# Altium footprint library Connector.PcbLib: 240 footprints (part 2 of 15)
Each footprint in its own frame and in the unit in brackets; x right, y up, seen from the top. Pads: shape width x height; smd on the part's side, far side on the other; paste and mask are expansions set on the pad; w line width, h text height; cw(c..) or ccw(c..) is an arc to the next point about the centre after c.
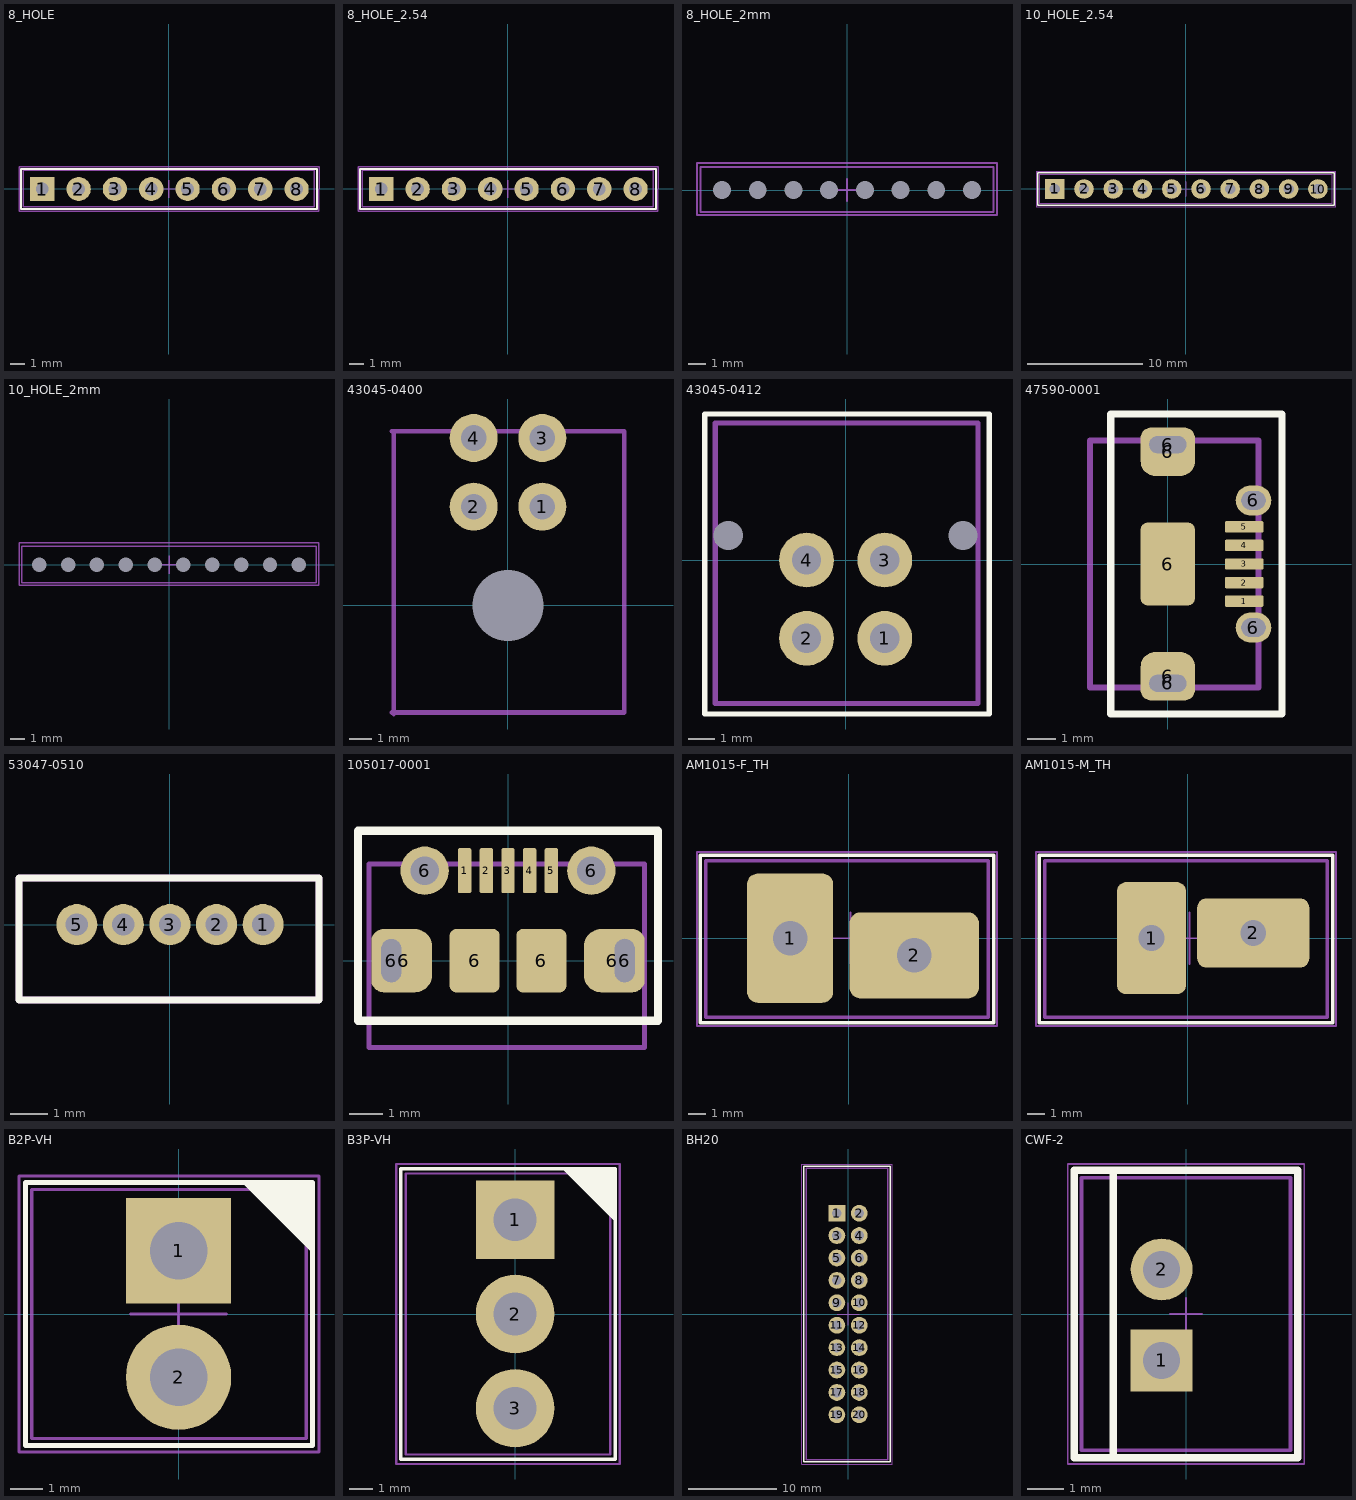
[diagram p1: the footprints below, top view; thin cyan lines are the x and y axes]

## 8_HOLE [mm]
pads (8):
  rect 1.7x1.7 hole 0.9: 1(-8.845,0)
  round 1.7 hole 0.9: 2(-6.305,0) 3(-3.765,0) 5(1.315,0) 6(3.855,0) 7(6.395,0) 8(8.935,0)
  round 1.7 hole 0.9 mask+0.102: 4(-1.225,0)
Top Overlay:
  lines w0.15: -10.325,-1.4 10.355,-1.4 10.355,1.4 -10.325,1.4 -10.325,-1.4
Mechanical 9:
  text ".Designator" at -5.2,5.5 h3.5
Mechanical 10:
  text ".Comment" at -3.1,-5 h2
Mechanical 11:
  lines w0.1: -10.18,-1.23 -10.18,1.3 10.175,1.3 10.175,-1.23 -10.18,-1.23
Mechanical 15:
  lines w0.1: -0.6,0 0.6,0 ; 0,-0.625 0,0.625 ; -10.475,-1.55 -10.475,1.525 -10.475,1.55 10.505,1.55 10.505,-1.55 -10.45,-1.55 -10.475,-1.55

## 8_HOLE_2.54 [mm]
pads (8):
  rect 1.7x1.7 hole 0.9: 1(-8.845,0)
  round 1.7 hole 0.9: 2(-6.305,0) 3(-3.765,0) 5(1.315,0) 6(3.855,0) 7(6.395,0) 8(8.935,0)
  round 1.7 hole 0.9 mask+0.102: 4(-1.225,0)
Top Overlay:
  lines w0.15: -10.325,-1.4 -10.325,1.4 10.355,1.4 10.355,-1.4 -10.325,-1.4
Mechanical 9:
  text ".Designator" at -5.2,5.5 h3.5
Mechanical 10:
  text ".Comment" at -3.1,-5 h2
Mechanical 11:
  lines w0.1: -10.18,-1.23 10.175,-1.23 10.175,1.3 -10.18,1.3 -10.18,-1.23
Mechanical 15:
  lines w0.1: -0.6,0 0.6,0 ; 0,-0.625 0,0.625 ; -10.475,-1.55 -10.45,-1.55 10.505,-1.55 10.505,1.55 -10.475,1.55 -10.475,1.525 -10.475,-1.55

## 8_HOLE_2mm [mm]
pads (8):
  rect 0x0 hole 1: 1(-7,0)
  round 0 hole 1 mask+0.102: 2(-5,0) 3(-3,0) 4(-1,0)
  round 0 hole 1: 5(1,0) 6(3,0) 7(5,0) 8(7,0)
Mechanical 9:
  text ".Designator" at -5.9,2.6 h3.5
Mechanical 10:
  text ".Comment" at -3.5,-2.9 h2
Mechanical 11:
  lines w0.1: -8.2,-1.23 -8.2,1.3 8.2,1.3 8.2,-1.23 -8.2,-1.23
Mechanical 15:
  lines w0.1: -0.6,0 0.6,0 ; 0,-0.625 0,0.625 ; -8.4,-1.4 8.4,-1.4 8.4,1.525 -8.4,1.525 -8.4,-1.4

## 10_HOLE_2.54 [mm]
pads (10):
  rect 1.7x1.7 hole 0.9: 1(-11.395,0)
  round 1.7 hole 0.9: 2(-8.855,0) 3(-6.315,0) 5(-1.235,0) 6(1.305,0) 7(3.845,0) 8(6.385,0) 9(8.925,0) 10(11.465,0)
  round 1.7 hole 0.9 mask+0.102: 4(-3.775,0)
Top Overlay:
  lines w0.15: -12.875,-1.4 12.885,-1.4 12.885,1.4 -12.875,1.4 -12.875,-1.4
Mechanical 9:
  text ".Designator" at -5.2,5.5 h3.5
Mechanical 10:
  text ".Comment" at -3.1,-5 h2
Mechanical 11:
  lines w0.1: -12.73,-1.23 -12.73,1.3 12.705,1.3 12.705,-1.23 -12.73,-1.23
Mechanical 15:
  lines w0.1: -0.6,0 0.6,0 ; 0,-0.625 0,0.625 ; 12.95,1.55 -13.025,1.55 -13.025,1.525 -13.025,-1.55 -13,-1.55 13.035,-1.55 13.035,1.55

## 10_HOLE_2mm [mm]
pads (10):
  rect 0x0 hole 1: 1(-9,0) 2(-7,0)
  round 0 hole 1 mask+0.102: 3(-5,0) 4(-3,0) 5(-1,0)
  round 0 hole 1: 6(1,0) 7(3,0) 8(5,0) 9(7,0) 10(9,0)
Mechanical 9:
  text ".Designator" at -5.9,2.6 h3.5
Mechanical 10:
  text ".Comment" at -3.5,-2.9 h2
Mechanical 11:
  lines w0.1: -10.2,-1.23 -10.2,1.3 10.2,1.3 10.2,-1.23 -10.2,-1.23
Mechanical 15:
  lines w0.1: -0.6,0 0.6,0 ; 0,-0.625 0,0.625 ; -10.4,-1.4 -10.4,1.525 10.4,1.525 10.4,-1.4 -10.4,-1.4

## 43045-0400 [mm]
pads (5):
  round 2.1 hole 1.12: 1(1.5,4.32) 2(-1.5,4.32) 3(1.5,7.32) 4(-1.5,7.32)
  round 0 hole 3.1 unplated: ""(0,0)
Mechanical 15:
  lines w0.2: -5.075,-4.686 5.075,-4.686 5.075,7.62 -5.075,7.62 ; -5,-4.75 -5,7.556
3D body "razem.stp": height 10.7, standoff -3.18, extent -5.075,-12.27 5.075,7.62

## 43045-0412 [mm]
pads (6):
  round 2.1 hole 1.12: 1(1.5,-3) 2(-1.5,-3) 3(1.5,0) 4(-1.5,0)
  round 0 hole 1.12 unplated: ""(-4.5,0.94) ""(4.5,0.94)
Top Overlay:
  lines w0.2: -5.4,-5.9 -5.4,5.6 5.5,5.6 5.5,-5.9 -5.4,-5.9
Mechanical 15:
  lines w0.2: -5,-5.5 -5,5.25 5.075,5.25 5.075,-5.5 -5,-5.5
3D body "430450412Ass.STEP": height 17.6, standoff -3.14, extent -5.075,-5.59 5.075,5.24

## 47590-0001 [mm]
pads (12):
  rrect25% 1.35x0.4 smd: 1(2.675,-1.3) 2(2.675,-0.65) 3(2.675,0) 4(2.675,0.65) 5(2.675,1.3)
  rrect60% 1.9x1.7 smd: 6(0,-3.925) 6(0,3.925)
  rrect25% 1.9x2.9 smd: 6(0,0)
  rrect60% 1.9x1.2 hole 0.6 slot 1.3 at 0 deg: 6(0,4.175) 6(0,-4.175)
  oval 1.25x1.05 hole 0.65 slot 0.85 at 0 deg: 6(3,-2.225) 6(3,2.225)
Top Overlay:
  lines w0.254: -2,-5.25 -2,5.25 4,5.25 4,-5.25 -2,-5.25
Mechanical 7:
  lines w0.2: -2.725,-4.325 -2.725,4.325 3.175,4.325 3.175,-4.325 -2.725,-4.325
3D body "475900001.stp": height 2.73, standoff -0.63, extent -2.725,-4.325 3.175,4.325

## 53047-0510 [mm]
pads (5):
  round 1.1 hole 0.6 mask+0: 1(2.5,0) 2(1.25,0) 3(0,0) 4(-1.25,0) 5(-2.5,0)
Top Overlay:
  lines w0.2: -4.05,-2.025 -4.05,1.25 4,1.25 4,-2.025 -4.05,-2.025
Mechanical 15:
  lines w0.2: -4.05,-2.025 -4.05,1.25 4,1.25 4,-2.025 -4.05,-2.025
3D body "molex_5pin.stp": height 5.23, standoff -2.27, extent -4.05,-2.025 4,1.225

## 105017-0001 [mm]
pads (13):
  rrect25% 0.4x1.35 smd: 1(-1.3,2.7) 2(-0.65,2.7) 3(0,2.7) 4(0.65,2.7) 5(1.3,2.7)
  rrect60% 1.2x1.9 hole 0.6 slot 1.3 at 90 deg: 6(-3.5,0) 6(3.5,0)
  rrect60% 1.7x1.9 smd: 6(-3.125,0) 6(3.125,0)
  round 1.45 hole 0.85: 6(-2.5,2.7) 6(2.5,2.7)
  rrect25% 1.5x1.9 smd: 6(-1,0) 6(1,0)
Top Overlay:
  lines w0.254: -4.5,-1.8 -4.5,3.9 4.5,3.9 4.5,-1.8 -4.5,-1.8
Mechanical 7:
  lines w0.15: -4.175,-2.6 4.1,-2.6 4.1,2.9 -4.175,2.9 -4.175,-2.6
3D body "1050170001.stp": height 2.73, standoff -0.58, extent -4.1,-2.575 4.1,2.825

## AM1015-F_TH [mm]
pads (2):
  rrect25% 5x7.5 hole 2 square: 1(-3.4,0)
  rrect25% 7.5x5 hole 2 square: 2(3.8,-1)
Top Overlay:
  lines w0.2: -8.6,-4.9 8.4,-4.9 8.4,4.8 -8.6,4.8 -8.6,-4.9
Mechanical 7:
  lines w0.2: -8.3,-4.6 8.1,-4.6 8.1,4.5 -8.3,4.5 -8.3,-4.6
Mechanical 9:
  text ".Designator" at -5.3,6.6 h3.5
Mechanical 10:
  text ".Comment" at -2.8,4.8 h2
Mechanical 15:
  lines w0.1: -1.5,0 1.5,0 ; 0.1,-1.5 0.1,1.5 ; -8.8,-5.1 -8.8,5 8.6,5 8.6,-5.1 -8.8,-5.1
3D body "Amass T Plug Female Connector.STEP": height 11.5, standoff -3.7, extent -8.25,-4.625 8.15,4.575

## AM1015-M_TH [mm]
pads (2):
  rrect25% 4x6.5 hole 1.5 square: 1(-2.1,0)
  rrect25% 6.5x4 hole 1.5 square: 2(3.8,0.3)
Top Overlay:
  lines w0.2: -8.6,-4.9 8.4,-4.9 8.4,4.8 -8.6,4.8 -8.6,-4.9
Mechanical 7:
  lines w0.2: -8.3,-4.6 8.1,-4.6 8.1,4.5 -8.3,4.5 -8.3,-4.6
Mechanical 9:
  text ".Designator" at -5.3,6.6 h3.5
Mechanical 10:
  text ".Comment" at -2.8,4.8 h2
Mechanical 15:
  lines w0.1: -1.5,0 1.5,0 ; 0.1,-1.5 0.1,1.5 ; -8.8,-5.1 -8.8,5 8.6,5 8.6,-5.1 -8.8,-5.1
3D body "Amass T Plug Male Connector.STEP": height 15.45, standoff -3.7, extent -8.25,-4.625 8.15,4.575

## B2P-VH [mm] "Вилка прямая на плату (к VHR) 3.96мм"
height 0.05
pads (2):
  rect 3.3x3.3 hole 1.8: 1(0,1.98)
  round 3.3 hole 1.8: 2(0,-1.98)
Top Overlay:
  region: 2.006,4.094 4.2,1.9 4.2,4.12
  lines w0.15: -4.8,-4.12 4.2,-4.12 4.2,4.12 -4.8,4.12 -4.8,-4.12
Mechanical 7:
  lines w0.1: -4.6,-3.9 4,-3.9 4,3.9 -4.6,3.9 -4.6,-3.9
Mechanical 9:
  text ".Designator" at -5.9,5.3 h3.5
Mechanical 10:
  text ".Comment" at -3.3,-5.9 h2
Mechanical 15:
  lines w0.1: -1.5,0 1.5,0 ; 0,-1.5 0,1.5 ; -5,-4.32 4.4,-4.32 4.4,4.32 -5,4.32 -5,-4.32
3D body "User Library-B2P-VH.STEP": height 10.9, standoff -3.7, extent -4.6,-3.93 3.9,3.93

## B3P-VH [mm] "Вилка прямая на плату (к VHR) 3.96мм"
height 0.05
pads (3):
  rect 3.3x3.3 hole 1.8: 1(0,3.96)
  round 3.3 hole 1.8: 2(0,0) 3(0,-3.96)
Top Overlay:
  region: 2.006,6.074 4.2,3.88 4.2,6.1
  lines w0.15: -4.8,-6.1 -4.8,6.1 4.2,6.1 4.2,-6.1 -4.8,-6.1
Mechanical 7:
  lines w0.1: -4.6,-5.9 -4.6,5.9 4,5.9 4,-5.9 -4.6,-5.9
Mechanical 9:
  text ".Designator" at -6,7 h3.5
Mechanical 10:
  text ".Comment" at -3.2,-7.7 h2
Mechanical 15:
  lines w0.1: -1.5,0 1.5,0 ; 0,-1.5 0,1.5 ; -5,-6.3 4.4,-6.3 4.4,6.3 -5,6.3 -5,-6.3
3D body "User Library-B3P-VH.STEP": height 10.9, standoff -3.7, extent -4.6,-5.91 3.9,5.91

## BH20 [mm]
height 0.05
pads (20):
  rect 1.9x1.9 hole 1.1: 1(-1.27,11.43)
  round 1.9 hole 1.1: 2(1.27,11.43) 3(-1.27,8.89) 4(1.27,8.89) 5(-1.27,6.35) 6(1.27,6.35) 9(-1.27,1.27) 10(1.27,1.27) 11(-1.27,-1.27) 12(1.27,-1.27) 13(-1.27,-3.81) 14(1.27,-3.81) 17(-1.27,-8.89) 18(1.27,-8.89) 19(-1.27,-11.43) 20(1.27,-11.43)
  round 1.9 hole 1.1 mask+0.102: 7(-1.27,3.81) 8(1.27,3.81) 15(-1.27,-6.35) 16(1.27,-6.35)
Top Overlay:
  lines w0.15: -5,-16.75 -5,16.75 4.75,16.75 4.75,-16.75 -5,-16.75
Mechanical 9:
  text ".Designator" at -5.25,18.5 h3.5
Mechanical 10:
  text ".Comment" at -2.75,-18.75 h2
Mechanical 11:
  lines w0.15: -4.75,-16.5 -4.75,16.5 4.5,16.5 4.5,-16.5 -4.75,-16.5
Mechanical 15:
  lines w0.1: -1.25,0 1.25,0 ; 0,-1.25 0,1.25 ; -5.25,-17 -5.25,17 5,17 5,-17 -5.25,-17
3D body "User Library-BH-20.step": height 8.75, standoff -3.1, extent -4.725,-16.51 4.375,16.51

## CWF-2 [mm] "7.5mm L x 5.75mm W, pitch 2.5mm"
height 7
pads (2):
  rect 1.7x1.7 hole 1.02: 1(-0.67,-1.275)
  round 1.7 hole 1.02: 2(-0.67,1.225)
Top Overlay:
  lines w0.2: -2,-3.95 -2,3.95 ; -3.075,-3.95 -3.075,3.95 3.075,3.95 3.075,-3.95 -3.075,-3.95
Mechanical 13:
  lines w0.1: -2.875,-3.75 -2.875,3.75 2.875,3.75 2.875,-3.75 -2.875,-3.75
Mechanical 15:
  lines w0.05: -0.437,0 0.437,0 ; 0,-0.437 0,0.437 ; -3.25,-4.125 3.25,-4.125 3.25,4.125 -3.25,4.125 -3.25,-4.125
3D body "User Library-DS1069-2 CWF-2.step": height 7.05, standoff -3.45, extent -2.875,-3.75 2.875,3.75